# Altium footprint library 480372200.PcbLib: 1 footprints
Each footprint in its own frame and in the unit in brackets; x right, y up, seen from the top. Pads: shape width x height; smd on the part's side, far side on the other; paste and mask are expansions set on the pad; w line width, h text height; cw(c..) or ccw(c..) is an arc to the next point about the centre after c.
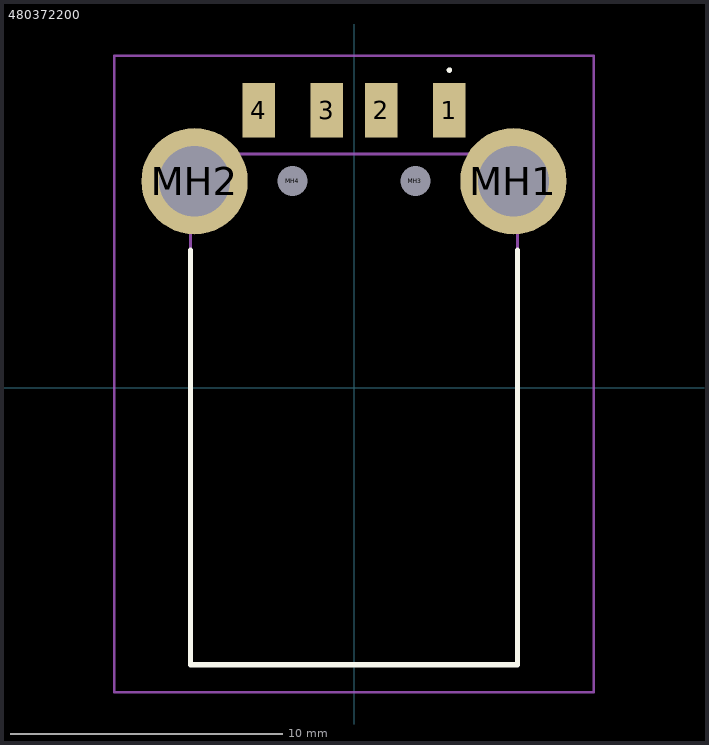
[diagram p0: the footprint, top view; thin cyan lines are the x and y axes]

## 480372200 [mm]
pads (8):
  rect 1.2x2 smd: 1(3.5,10.175) 2(1,10.175) 3(-1,10.175) 4(-3.5,10.175)
  round 3.9 hole 2.6: MH1(5.85,7.575) MH2(-5.85,7.575)
  round 0.55 hole 1.1 unplated: MH3(2.25,7.575) MH4(-2.25,7.575)
Top Overlay:
  lines w0.1: 3.5,11.6 3.5,11.6 ; 3.5,11.6 ccw(c3.5,11.65) 3.5,11.7 ; 3.5,11.6 cw(c3.5,11.65) 3.5,11.7 ; 3.5,11.7 3.5,11.7
  lines w0.2: -6,5.035 -6,-10.175 6,-10.175 6,5.035
Mechanical 15:
  lines w0.1: -6,-10.175 6,-10.175 6,8.575 -6,8.575 -6,-10.175
Mechanical 20:
  lines w0.1: -8.8,-11.175 8.8,-11.175 8.8,12.175 -8.8,12.175 -8.8,-11.175